# Altium footprint library PcbLibrary.PcbLib: 2 footprints
Each footprint in its own frame and in the unit in brackets; x right, y up, seen from the top. Pads: shape width x height; smd on the part's side, far side on the other; paste and mask are expansions set on the pad; w line width, h text height; cw(c..) or ccw(c..) is an arc to the next point about the centre after c.
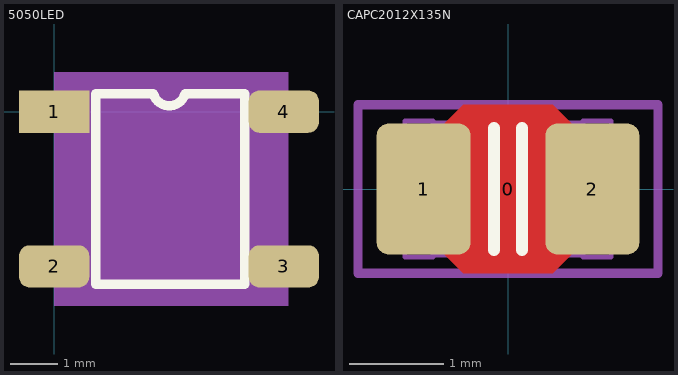
[diagram p0: the footprints below, top view; thin cyan lines are the x and y axes]

## 5050LED [mm]
pads (4):
  rect 1.5x0.9 smd: 1(0,0)
  rrect50% 1.5x0.9 smd: 2(0,-3.3) 3(4.9,-3.3) 4(4.9,0)
Top Overlay:
  lines w0.2: 2.117,0.38 ccw(c2.455,0.476) 2.794,0.381 4.064,0.381 4.064,-3.683 0.889,-3.683 0.889,0.381 2.117,0.381
Mechanical 15:
  rectangle: 0,-4.15 5,0.85

## CAPC2012X135N [mm] "Chip Capacitor, Body 2.0x1.2mm, EIA 0805, IPC Medium Density"
height 1.35
pads (3):
  round 0.254 on Mech15: 0(0,0)
  rrect25% 1x1.4 smd: 1(-0.9,0) 2(0.9,0)
Top Layer:
  pour cut-out: -0.675,0.7 -0.475,0.9 0.475,0.9 0.675,0.7 0.675,-0.7 0.475,-0.9 -0.475,-0.9 -0.675,-0.7
Top Overlay:
  lines w0.127: -0.15,-0.651 -0.15,0.651 ; 0.15,-0.651 0.15,0.651
Mechanical 13:
  lines w0.05: -0.8,-0.705 0.8,-0.705 ; -0.8,0.705 0.8,0.705 ; -1.1,-0.725 -0.8,-0.725 -0.8,0.725 -1.1,0.725 -1.1,-0.725 ; 0.8,-0.725 0.8,0.725 1.1,0.725 1.1,-0.725 0.8,-0.725
Mechanical 15:
  lines w0.1: -1.6,-0.9 1.6,-0.9 1.6,0.9 -1.6,0.9 -1.6,-0.9
3D body: height 1.34, standoff -0.01, extent -1.1,-0.725 1.1,0.725